# Altium integrated library Cypress Communication Receiver.IntLib: 10 symbols
Pins are listed as number, name and electrical type; pins without a type are passive.

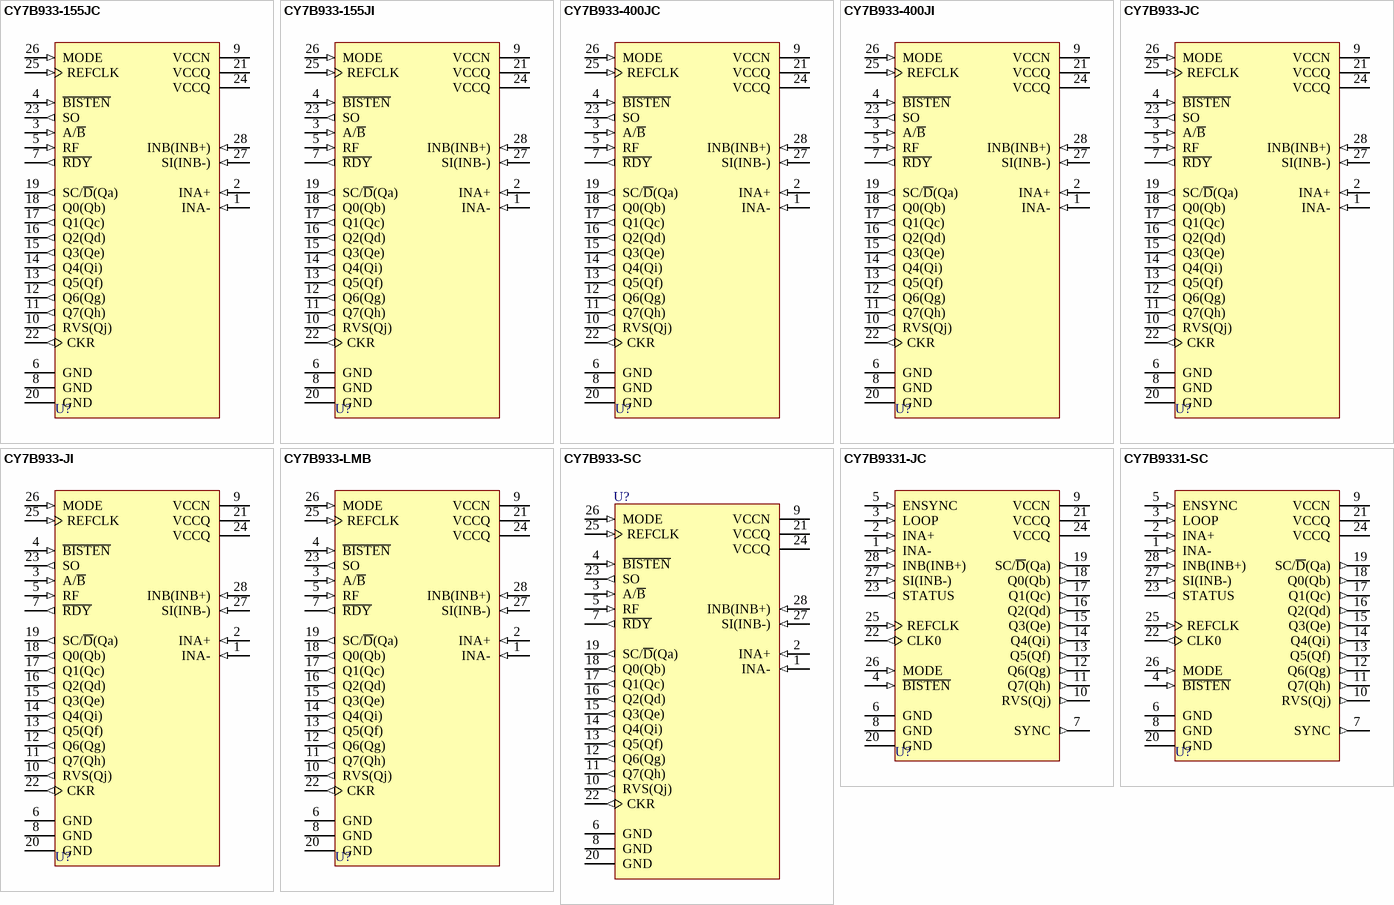
[diagram p0: symbols CY7B933-155JC to CY7B9331-SC]

## CY7B933-155JC
designator U?
HOTLink Receiver; Published: 11-Dec-2002; LatestRevisionDate: 13-Apr-2006; LatestRevisionNote: IPC-7351 Footprint Added.; DatasheetVersion: 5-Apr-1999; PackageVersion: Jul-2000; PackageReference: J64; Publisher: Altium Limited; PackageDescription: 28-Pin Plastic Leaded Chip Carrier 1.27 mm Pitch; Code_IPC: PLCC-28; ComponentLink1Description: Manufacturer Link; ComponentLink1URL: http://www.cypress.com/; ComponentLink2Description: Datasheet; ComponentLink2URL: http://www.cypress.com/portal/server.pt/gateway/PTARGS_0_2_1524_209_259_43/http%3B/sjapp20.mis.cypress.com%3B7001/publishedcontent/publish/design_resources/datasheets/contents/cy7b923_5.pdf
footprint J64_N (Leaded Chip Carrier, 28-Leads, Body 11.5x11.5mm, Pitch 1.27mm, IPC Medium Density)
footprint J64_L (Leaded Chip Carrier, 28-Leads, Body 11.5x11.5mm, Pitch 1.27mm, IPC High Density)
footprint J64_M (Leaded Chip Carrier, 28-Leads, Body 11.5x11.5mm, Pitch 1.27mm, IPC Low Density)
3D model CY7B933-J64 (28-Pin Plastic Leaded Chip Carrier 1.27 mm Pitch)
pins: 1 INA- (in), 2 INA+ (in), 3 A/~{B} (in), 4 ~{BISTEN} (in), 5 RF (in), 6 GND (power), 7 ~{RDY} (out), 8 GND (power), 9 VCCN (power), 10 RVS(Qj) (out), 11 Q7(Qh) (out), 12 Q6(Qg) (out), 13 Q5(Qf) (out), 14 Q4(Qi) (out), 15 Q3(Qe) (out), 16 Q2(Qd) (out), 17 Q1(Qc) (out), 18 Q0(Qb) (out), 19 SC/~{D}(Qa) (out), 20 GND (power), 21 VCCQ (power), 22 CKR (out), 23 SO (out), 24 VCCQ (power), 25 REFCLK (in), 26 MODE (in), 27 SI(INB-) (in), 28 INB(INB+) (in)

## CY7B933-155JI
designator U?
HOTLink Receiver; Published: 11-Dec-2002; LatestRevisionDate: 13-Apr-2006; LatestRevisionNote: IPC-7351 Footprint Added.; DatasheetVersion: 5-Apr-1999; PackageVersion: Jul-2000; PackageReference: J64; Publisher: Altium Limited; PackageDescription: 28-Pin Plastic Leaded Chip Carrier 1.27 mm Pitch; Code_IPC: PLCC-28; ComponentLink1Description: Manufacturer Link; ComponentLink1URL: http://www.cypress.com/; ComponentLink2Description: Datasheet; ComponentLink2URL: http://www.cypress.com/portal/server.pt/gateway/PTARGS_0_2_1524_209_259_43/http%3B/sjapp20.mis.cypress.com%3B7001/publishedcontent/publish/design_resources/datasheets/contents/cy7b923_5.pdf
footprint J64_N (Leaded Chip Carrier, 28-Leads, Body 11.5x11.5mm, Pitch 1.27mm, IPC Medium Density)
footprint J64_L (Leaded Chip Carrier, 28-Leads, Body 11.5x11.5mm, Pitch 1.27mm, IPC High Density)
footprint J64_M (Leaded Chip Carrier, 28-Leads, Body 11.5x11.5mm, Pitch 1.27mm, IPC Low Density)
3D model CY7B933-J64 (28-Pin Plastic Leaded Chip Carrier 1.27 mm Pitch)
pins: 1 INA- (in), 2 INA+ (in), 3 A/~{B} (in), 4 ~{BISTEN} (in), 5 RF (in), 6 GND (power), 7 ~{RDY} (out), 8 GND (power), 9 VCCN (power), 10 RVS(Qj) (out), 11 Q7(Qh) (out), 12 Q6(Qg) (out), 13 Q5(Qf) (out), 14 Q4(Qi) (out), 15 Q3(Qe) (out), 16 Q2(Qd) (out), 17 Q1(Qc) (out), 18 Q0(Qb) (out), 19 SC/~{D}(Qa) (out), 20 GND (power), 21 VCCQ (power), 22 CKR (out), 23 SO (out), 24 VCCQ (power), 25 REFCLK (in), 26 MODE (in), 27 SI(INB-) (in), 28 INB(INB+) (in)

## CY7B933-400JC
designator U?
HOTLink Receiver; Published: 11-Dec-2002; LatestRevisionDate: 13-Apr-2006; LatestRevisionNote: IPC-7351 Footprint Added.; DatasheetVersion: 5-Apr-1999; PackageVersion: Jul-2000; PackageReference: J64; Publisher: Altium Limited; PackageDescription: 28-Pin Plastic Leaded Chip Carrier 1.27 mm Pitch; Code_IPC: PLCC-28; ComponentLink1Description: Manufacturer Link; ComponentLink1URL: http://www.cypress.com/; ComponentLink2Description: Datasheet; ComponentLink2URL: http://www.cypress.com/portal/server.pt/gateway/PTARGS_0_2_1524_209_259_43/http%3B/sjapp20.mis.cypress.com%3B7001/publishedcontent/publish/design_resources/datasheets/contents/cy7b923_5.pdf
footprint J64_N (Leaded Chip Carrier, 28-Leads, Body 11.5x11.5mm, Pitch 1.27mm, IPC Medium Density)
footprint J64_L (Leaded Chip Carrier, 28-Leads, Body 11.5x11.5mm, Pitch 1.27mm, IPC High Density)
footprint J64_M (Leaded Chip Carrier, 28-Leads, Body 11.5x11.5mm, Pitch 1.27mm, IPC Low Density)
3D model CY7B933-J64 (28-Pin Plastic Leaded Chip Carrier 1.27 mm Pitch)
pins: 1 INA- (in), 2 INA+ (in), 3 A/~{B} (in), 4 ~{BISTEN} (in), 5 RF (in), 6 GND (power), 7 ~{RDY} (out), 8 GND (power), 9 VCCN (power), 10 RVS(Qj) (out), 11 Q7(Qh) (out), 12 Q6(Qg) (out), 13 Q5(Qf) (out), 14 Q4(Qi) (out), 15 Q3(Qe) (out), 16 Q2(Qd) (out), 17 Q1(Qc) (out), 18 Q0(Qb) (out), 19 SC/~{D}(Qa) (out), 20 GND (power), 21 VCCQ (power), 22 CKR (out), 23 SO (out), 24 VCCQ (power), 25 REFCLK (in), 26 MODE (in), 27 SI(INB-) (in), 28 INB(INB+) (in)

## CY7B933-400JI
designator U?
HOTLink Receiver; Published: 11-Dec-2002; LatestRevisionDate: 13-Apr-2006; LatestRevisionNote: IPC-7351 Footprint Added.; DatasheetVersion: 5-Apr-1999; PackageVersion: Jul-2000; PackageReference: J64; Publisher: Altium Limited; PackageDescription: 28-Pin Plastic Leaded Chip Carrier 1.27 mm Pitch; Code_IPC: PLCC-28; ComponentLink1Description: Manufacturer Link; ComponentLink1URL: http://www.cypress.com/; ComponentLink2Description: Datasheet; ComponentLink2URL: http://www.cypress.com/portal/server.pt/gateway/PTARGS_0_2_1524_209_259_43/http%3B/sjapp20.mis.cypress.com%3B7001/publishedcontent/publish/design_resources/datasheets/contents/cy7b923_5.pdf
footprint J64_N (Leaded Chip Carrier, 28-Leads, Body 11.5x11.5mm, Pitch 1.27mm, IPC Medium Density)
footprint J64_L (Leaded Chip Carrier, 28-Leads, Body 11.5x11.5mm, Pitch 1.27mm, IPC High Density)
footprint J64_M (Leaded Chip Carrier, 28-Leads, Body 11.5x11.5mm, Pitch 1.27mm, IPC Low Density)
3D model CY7B933-J64 (28-Pin Plastic Leaded Chip Carrier 1.27 mm Pitch)
pins: 1 INA- (in), 2 INA+ (in), 3 A/~{B} (in), 4 ~{BISTEN} (in), 5 RF (in), 6 GND (power), 7 ~{RDY} (out), 8 GND (power), 9 VCCN (power), 10 RVS(Qj) (out), 11 Q7(Qh) (out), 12 Q6(Qg) (out), 13 Q5(Qf) (out), 14 Q4(Qi) (out), 15 Q3(Qe) (out), 16 Q2(Qd) (out), 17 Q1(Qc) (out), 18 Q0(Qb) (out), 19 SC/~{D}(Qa) (out), 20 GND (power), 21 VCCQ (power), 22 CKR (out), 23 SO (out), 24 VCCQ (power), 25 REFCLK (in), 26 MODE (in), 27 SI(INB-) (in), 28 INB(INB+) (in)

## CY7B933-JC
designator U?
HOTLink Receiver; Published: 11-Dec-2002; LatestRevisionDate: 13-Apr-2006; LatestRevisionNote: IPC-7351 Footprint Added.; DatasheetVersion: 5-Apr-1999; PackageVersion: Jul-2000; PackageReference: J64; Publisher: Altium Limited; PackageDescription: 28-Pin Plastic Leaded Chip Carrier 1.27 mm Pitch; Code_IPC: PLCC-28; ComponentLink1Description: Manufacturer Link; ComponentLink1URL: http://www.cypress.com/; ComponentLink2Description: Datasheet; ComponentLink2URL: http://www.cypress.com/portal/server.pt/gateway/PTARGS_0_2_1524_209_259_43/http%3B/sjapp20.mis.cypress.com%3B7001/publishedcontent/publish/design_resources/datasheets/contents/cy7b923_5.pdf
footprint J64_N (Leaded Chip Carrier, 28-Leads, Body 11.5x11.5mm, Pitch 1.27mm, IPC Medium Density)
footprint J64_L (Leaded Chip Carrier, 28-Leads, Body 11.5x11.5mm, Pitch 1.27mm, IPC High Density)
footprint J64_M (Leaded Chip Carrier, 28-Leads, Body 11.5x11.5mm, Pitch 1.27mm, IPC Low Density)
3D model CY7B933-J64 (28-Pin Plastic Leaded Chip Carrier 1.27 mm Pitch)
pins: 1 INA- (in), 2 INA+ (in), 3 A/~{B} (in), 4 ~{BISTEN} (in), 5 RF (in), 6 GND (power), 7 ~{RDY} (out), 8 GND (power), 9 VCCN (power), 10 RVS(Qj) (out), 11 Q7(Qh) (out), 12 Q6(Qg) (out), 13 Q5(Qf) (out), 14 Q4(Qi) (out), 15 Q3(Qe) (out), 16 Q2(Qd) (out), 17 Q1(Qc) (out), 18 Q0(Qb) (out), 19 SC/~{D}(Qa) (out), 20 GND (power), 21 VCCQ (power), 22 CKR (out), 23 SO (out), 24 VCCQ (power), 25 REFCLK (in), 26 MODE (in), 27 SI(INB-) (in), 28 INB(INB+) (in)

## CY7B933-JI
designator U?
HOTLink Receiver; Published: 11-Dec-2002; LatestRevisionDate: 13-Apr-2006; LatestRevisionNote: IPC-7351 Footprint Added.; DatasheetVersion: 5-Apr-1999; PackageVersion: Jul-2000; PackageReference: J64; Publisher: Altium Limited; PackageDescription: 28-Pin Plastic Leaded Chip Carrier 1.27 mm Pitch; Code_IPC: PLCC-28; ComponentLink1Description: Manufacturer Link; ComponentLink1URL: http://www.cypress.com/; ComponentLink2Description: Datasheet; ComponentLink2URL: http://www.cypress.com/portal/server.pt/gateway/PTARGS_0_2_1524_209_259_43/http%3B/sjapp20.mis.cypress.com%3B7001/publishedcontent/publish/design_resources/datasheets/contents/cy7b923_5.pdf
footprint J64_N (Leaded Chip Carrier, 28-Leads, Body 11.5x11.5mm, Pitch 1.27mm, IPC Medium Density)
footprint J64_L (Leaded Chip Carrier, 28-Leads, Body 11.5x11.5mm, Pitch 1.27mm, IPC High Density)
footprint J64_M (Leaded Chip Carrier, 28-Leads, Body 11.5x11.5mm, Pitch 1.27mm, IPC Low Density)
3D model CY7B933-J64 (28-Pin Plastic Leaded Chip Carrier 1.27 mm Pitch)
pins: 1 INA- (in), 2 INA+ (in), 3 A/~{B} (in), 4 ~{BISTEN} (in), 5 RF (in), 6 GND (power), 7 ~{RDY} (out), 8 GND (power), 9 VCCN (power), 10 RVS(Qj) (out), 11 Q7(Qh) (out), 12 Q6(Qg) (out), 13 Q5(Qf) (out), 14 Q4(Qi) (out), 15 Q3(Qe) (out), 16 Q2(Qd) (out), 17 Q1(Qc) (out), 18 Q0(Qb) (out), 19 SC/~{D}(Qa) (out), 20 GND (power), 21 VCCQ (power), 22 CKR (out), 23 SO (out), 24 VCCQ (power), 25 REFCLK (in), 26 MODE (in), 27 SI(INB-) (in), 28 INB(INB+) (in)

## CY7B933-LMB
designator U?
HOTLink Receiver; ComponentAvailability: Obsolete; Published: 11-Dec-2002; DatasheetVersion: 5-Apr-1999; PackageVersion: Apr-2001; PackageReference: L64; Publisher: Altium Limited; PackageDescription: Leadless Chip Carrier; 28 Terminals; Body 11.4 x 11.4 mm; ComponentLink1Description: Manufacturer Link; ComponentLink1URL: http://www.cypress.com/; ComponentLink2Description: Datasheet; ComponentLink2URL: http://www.cypress.com/portal/server.pt/gateway/PTARGS_0_2_1524_209_259_43/http%3B/sjapp20.mis.cypress.com%3B7001/publishedcontent/publish/design_resources/datasheets/contents/cy7b923_5.pdf
footprint L64 (Leadless Chip Carrier; 28 Terminals; Body 11.4 x 11.4 mm)
pins: 1 INA- (in), 2 INA+ (in), 3 A/~{B} (in), 4 ~{BISTEN} (in), 5 RF (in), 6 GND (power), 7 ~{RDY} (out), 8 GND (power), 9 VCCN (power), 10 RVS(Qj) (out), 11 Q7(Qh) (out), 12 Q6(Qg) (out), 13 Q5(Qf) (out), 14 Q4(Qi) (out), 15 Q3(Qe) (out), 16 Q2(Qd) (out), 17 Q1(Qc) (out), 18 Q0(Qb) (out), 19 SC/~{D}(Qa) (out), 20 GND (power), 21 VCCQ (power), 22 CKR (out), 23 SO (out), 24 VCCQ (power), 25 REFCLK (in), 26 MODE (in), 27 SI(INB-) (in), 28 INB(INB+) (in)

## CY7B933-SC
designator U?
HOTLink Receiver; Published: 11-Dec-2002; LatestRevisionDate: 13-Apr-2006; LatestRevisionNote: IPC-7351 Footprint Added.; DatasheetVersion: 5-Apr-1999; PackageVersion: Apr-1999; PackageReference: S21; Publisher: Altium Limited; PackageDescription: 28-Pin Molded Small Outline Integrated Circuit 1.27 mm Pitch; ComponentLink1Description: Manufacturer Link; ComponentLink1URL: http://www.cypress.com/; ComponentLink2Description: Datasheet; ComponentLink2URL: http://www.cypress.com/portal/server.pt/gateway/PTARGS_0_2_1524_209_259_43/http%3B/sjapp20.mis.cypress.com%3B7001/publishedcontent/publish/design_resources/datasheets/contents/cy7b923_5.pdf
footprint S21_N (SOIC, 28-Leads, Body 17.9x7.5mm, Pitch 1.27mm, IPC Medium Density)
footprint S21_L (SOIC, 28-Leads, Body 17.9x7.5mm, Pitch 1.27mm, IPC High Density)
footprint S21_M (SOIC, 28-Leads, Body 17.9x7.5mm, Pitch 1.27mm, IPC Low Density)
3D model S21 (28-Pin Molded Small Outline Integrated Circuit 1.27 mm Pitch)
pins: 1 INA- (in), 2 INA+ (in), 3 A/~{B} (in), 4 ~{BISTEN} (in), 5 RF (in), 6 GND (power), 7 ~{RDY} (out), 8 GND (power), 9 VCCN (power), 10 RVS(Qj) (out), 11 Q7(Qh) (out), 12 Q6(Qg) (out), 13 Q5(Qf) (out), 14 Q4(Qi) (out), 15 Q3(Qe) (out), 16 Q2(Qd) (out), 17 Q1(Qc) (out), 18 Q0(Qb) (out), 19 SC/~{D}(Qa) (out), 20 GND (power), 21 VCCQ (power), 22 CKR (out), 23 SO (out), 24 VCCQ (power), 25 REFCLK (in), 26 MODE (in), 27 SI(INB-) (in), 28 INB(INB+) (in)

## CY7B9331-JC
designator U?
HOTLink OLC Receiver; Published: 11-Dec-2002; LatestRevisionDate: 13-Apr-2006; LatestRevisionNote: IPC-7351 Footprint Added.; DatasheetVersion: Apr-1994; PackageVersion: Jul-2000; PackageReference: J64; Publisher: Altium Limited; PackageDescription: 28-Pin Plastic Leaded Chip Carrier 1.27 mm Pitch; Code_IPC: PLCC-28; ComponentLink1Description: Manufacturer Link; ComponentLink1URL: http://www.cypress.com/
footprint J64_N (Leaded Chip Carrier, 28-Leads, Body 11.5x11.5mm, Pitch 1.27mm, IPC Medium Density)
footprint J64_L (Leaded Chip Carrier, 28-Leads, Body 11.5x11.5mm, Pitch 1.27mm, IPC High Density)
footprint J64_M (Leaded Chip Carrier, 28-Leads, Body 11.5x11.5mm, Pitch 1.27mm, IPC Low Density)
3D model CY7B9331-J64 (28-Pin Plastic Leaded Chip Carrier 1.27 mm Pitch)
pins: 1 INA- (in), 2 INA+ (in), 3 LOOP (in), 4 ~{BISTEN} (in), 5 ENSYNC (in), 6 GND (power), 7 SYNC (out), 8 GND (power), 9 VCCN (power), 10 RVS(Qj) (out), 11 Q7(Qh) (out), 12 Q6(Qg) (out), 13 Q5(Qf) (out), 14 Q4(Qi) (out), 15 Q3(Qe) (out), 16 Q2(Qd) (out), 17 Q1(Qc) (out), 18 Q0(Qb) (out), 19 SC/~{D}(Qa) (out), 20 GND (power), 21 VCCQ (power), 22 CLK0 (out), 23 STATUS (out), 24 VCCQ (power), 25 REFCLK (in), 26 MODE (in), 27 SI(INB-) (in), 28 INB(INB+) (in)

## CY7B9331-SC
designator U?
HOTLink OLC Receiver; Published: 11-Dec-2002; LatestRevisionDate: 13-Apr-2006; LatestRevisionNote: IPC-7351 Footprint Added.; DatasheetVersion: Apr-1994; PackageVersion: Apr-1999; PackageReference: S21; Publisher: Altium Limited; PackageDescription: 28-Pin Molded Small Outline Integrated Circuit 1.27 mm Pitch; ComponentLink1Description: Manufacturer Link; ComponentLink1URL: http://www.cypress.com/
footprint S21_N (SOIC, 28-Leads, Body 17.9x7.5mm, Pitch 1.27mm, IPC Medium Density)
footprint S21_L (SOIC, 28-Leads, Body 17.9x7.5mm, Pitch 1.27mm, IPC High Density)
footprint S21_M (SOIC, 28-Leads, Body 17.9x7.5mm, Pitch 1.27mm, IPC Low Density)
3D model S21 (28-Pin Molded Small Outline Integrated Circuit 1.27 mm Pitch)
pins: 1 INA- (in), 2 INA+ (in), 3 LOOP (in), 4 ~{BISTEN} (in), 5 ENSYNC (in), 6 GND (power), 7 SYNC (out), 8 GND (power), 9 VCCN (power), 10 RVS(Qj) (out), 11 Q7(Qh) (out), 12 Q6(Qg) (out), 13 Q5(Qf) (out), 14 Q4(Qi) (out), 15 Q3(Qe) (out), 16 Q2(Qd) (out), 17 Q1(Qc) (out), 18 Q0(Qb) (out), 19 SC/~{D}(Qa) (out), 20 GND (power), 21 VCCQ (power), 22 CLK0 (out), 23 STATUS (out), 24 VCCQ (power), 25 REFCLK (in), 26 MODE (in), 27 SI(INB-) (in), 28 INB(INB+) (in)